# Altium footprint library header_female.PcbLib: 8 footprints
Each footprint in its own frame and in the unit in brackets; x right, y up, seen from the top. Pads: shape width x height; smd on the part's side, far side on the other; paste and mask are expansions set on the pad; w line width, h text height; cw(c..) or ccw(c..) is an arc to the next point about the centre after c.
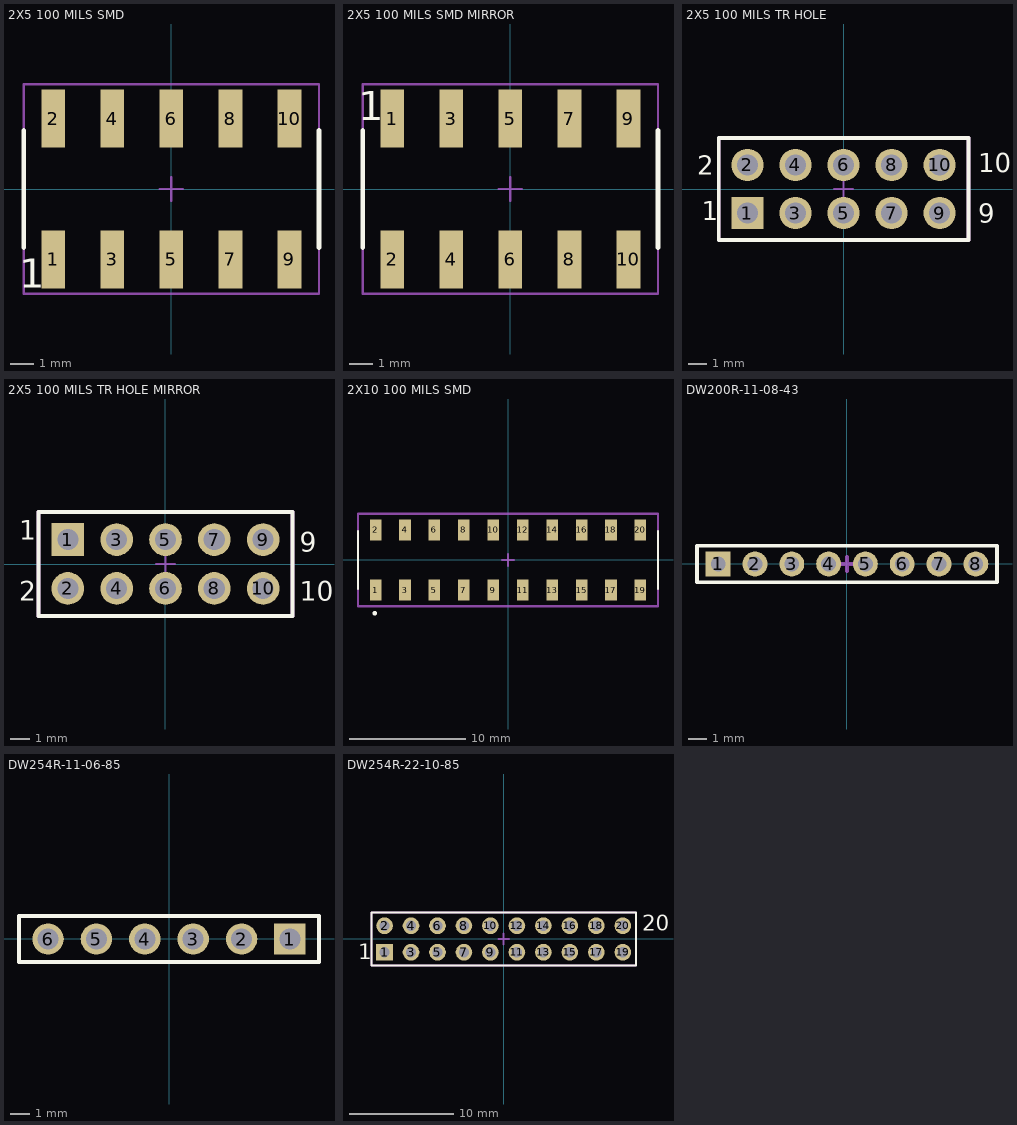
[diagram p0: the footprints below, top view; thin cyan lines are the x and y axes]

## 2X5 100 MILS SMD [mm]
pads (10):
  rect 1.02x2.5 smd: 1(-5.08,-3.025) 2(-5.08,3.025) 3(-2.54,-3.025) 4(-2.54,3.025) 5(0,-3.025) 6(0,3.025) 7(2.54,-3.025) 8(2.54,3.025) 9(5.08,-3.025) 10(5.08,3.025)
Top Overlay:
  lines w0.2: -6.35,-2.515 -6.35,2.515 ; 6.35,-2.515 6.35,2.515
  text "1" at -6.55,-4.25 h1.25
Top Courtyard (Mech15):
  lines w0.1: -0.5,0 0.5,0 ; 0,-0.5 0,0.5 ; -6.35,-4.5 6.35,-4.5 6.35,4.5 -6.35,4.5 -6.35,-4.5
  text "'.Designator'" at 0.95,-0.225 h1
3D body "89898-305_asm.stp": height 7.2, standoff 0, extent -6.39,-3.016 6.23,3.016

## 2X5 100 MILS SMD MIRROR [mm]
pads (10):
  rect 1.02x2.5 smd: 1(-5.08,3.025) 2(-5.08,-3.025) 3(-2.54,3.025) 4(-2.54,-3.025) 5(0,3.025) 6(0,-3.025) 7(2.54,3.025) 8(2.54,-3.025) 9(5.08,3.025) 10(5.08,-3.025)
Top Overlay:
  lines w0.2: -6.35,-2.515 -6.35,2.515 ; 6.35,-2.515 6.35,2.515
  text "1" at -6.55,2.95 h1.25
Top Courtyard (Mech15):
  lines w0.1: -0.5,0 0.5,0 ; 0,-0.5 0,0.5 ; -6.35,-4.5 -6.35,4.5 6.35,4.5 6.35,-4.5 -6.35,-4.5
  text "'.Designator'" at -5.7,-3.7 h1
3D body "89898-305_asm.stp": height 7.2, standoff 0, extent -6.39,-3.016 6.23,3.016

## 2X5 100 MILS TR HOLE [mm]
pads (10):
  rect 1.7x1.7 hole 1.1: 1(-5.08,-1.27)
  round 1.7 hole 1.1: 2(-5.08,1.27) 3(-2.54,-1.27) 4(-2.54,1.27) 5(0,-1.27) 6(0,1.27) 7(2.54,-1.27) 8(2.54,1.27) 9(5.08,-1.27) 10(5.08,1.27)
Top Overlay:
  lines w0.2: -6.6,-2.7 6.6,-2.7 6.6,2.7 -6.6,2.7 -6.6,-2.7
  text "9" at 7.112,-1.778 h1
  text "10" at 7.112,0.889 h1
  text "1" at -7.493,-1.651 h1
  text "2" at -7.747,0.762 h1
Top Courtyard (Mech15):
  lines w0.1: -0.5,0 0.5,0 ; 0,-0.5 0,0.5
  lines w0.2: -6.6,-2.7 -6.6,2.7 6.6,2.7 6.6,-2.7 -6.6,-2.7
  text "'.Designator'" at -5.4,-2 h1
3D body "zl262-10d_p2-54_l13-2_w5_h8-5.stp": height 8.5, standoff -3, extent -6.6,-2.5 6.6,2.5

## 2X5 100 MILS TR HOLE MIRROR [mm]
pads (10):
  rect 1.7x1.7 hole 1.1: 1(-5.08,1.27)
  round 1.7 hole 1.1: 2(-5.08,-1.27) 3(-2.54,1.27) 4(-2.54,-1.27) 5(0,1.27) 6(0,-1.27) 7(2.54,1.27) 8(2.54,-1.27) 9(5.08,1.27) 10(5.08,-1.27)
Top Overlay:
  lines w0.2: -6.6,-2.7 6.6,-2.7 6.6,2.7 -6.6,2.7 -6.6,-2.7
  text "2" at -7.62,-1.905 h1
  text "1" at -7.62,1.27 h1
  text "10" at 6.985,-1.905 h1
  text "9" at 6.985,0.635 h1
Top Courtyard (Mech15):
  lines w0.1: -0.5,0 0.5,0 ; 0,-0.5 0,0.5
  lines w0.2: -6.6,-2.7 -6.6,2.7 6.6,2.7 6.6,-2.7 -6.6,-2.7
  text "'.Designator'" at -5.8,-1.9 h1
3D body "zl262-10d_p2-54_l13-2_w5_h8-5.stp": height 8.5, standoff -3, extent -6.6,-2.5 6.6,2.5

## 2X10 100 MILS SMD [mm]
pads (20):
  rect 1x1.8 smd: 1(-11.43,-2.6) 2(-11.43,2.6) 3(-8.89,-2.6) 4(-8.89,2.6) 5(-6.35,-2.6) 6(-6.35,2.6) 7(-3.81,-2.6) 8(-3.81,2.6) 9(-1.27,-2.6) 10(-1.27,2.6) 11(1.27,-2.6) 12(1.27,2.6) 13(3.81,-2.6) 14(3.81,2.6) 15(6.35,-2.6) 16(6.35,2.6) 17(8.89,-2.6) 18(8.89,2.6) 19(11.43,-2.6) 20(11.43,2.6)
Top Overlay:
  lines w0.2: -12.95,-2.5 -12.95,2.5 ; 12.95,-2.5 12.95,2.5 ; -11.5,-4.7 cw(c-11.5,-4.6) -11.5,-4.5 cw(c-11.5,-4.6) -11.5,-4.7
Top Courtyard (Mech15):
  lines w0.2: -0.5,0 0.5,0 ; 0,-0.5 0,0.5 ; -12.95,-4 -12.95,4 12.95,4 12.95,-4 -12.95,-4
  text "'.Designator'" at -10.7,-2.9 h1.25
3D body "61032021821.stp": height 7.85, standoff 0, extent -12.95,-3.4 12.95,3.4

## DW200R-11-08-43 [mm]
pads (8):
  rect 1.35x1.35 hole 0.8: 1(-7,0)
  round 1.35 hole 0.8: 2(-5,0) 3(-3,0) 4(-1,0) 5(1,0) 6(3,0) 7(5,0) 8(7,0)
Top Overlay:
  lines w0.2: -8.15,-1 8.15,-1 8.15,1 -8.15,1 -8.15,-1
Top Courtyard (Mech15):
  lines w0.1: -8.15,-1 -8.15,1 8.15,1 8.15,-1 -8.15,-1
  lines w0.2: -0.4,0 0,0 ; 0,-0.4 0,0 ; 0,0.4 0,0 ; 0.4,0 0,0
  text "'.Designator'" at -7.1,-0.133 h0.5
3D body "DW200R-11-08-43.stp": height 6.35, standoff -1.27, extent -8.15,-1 8.15,1

## DW254R-11-06-85 [mm]
pads (6):
  rect 1.65x1.65 / inner round 1.65 / far side rect 1.65x1.65 hole 1.1: 1(6.35,-0.005)
  round 1.65 hole 1.1: 2(3.81,-0.005) 3(1.27,-0.005) 4(-1.27,-0.005) 5(-3.81,-0.005) 6(-6.35,-0.005)
Top Overlay:
  lines w0.2: -7.875,-1.21 -7.875,1.2 7.875,1.2 7.875,-1.21 -7.875,-1.21
Top Courtyard (Mech15):
  lines w0.1: -7.875,-1.21 -7.875,1.2 7.875,1.2 7.875,-1.21 -7.875,-1.21
3D body "1x6_Female_TH.stp": height 8.51, standoff -4.93, extent -7.925,-1.205 7.825,1.205

## DW254R-22-10-85 [mm]
pads (20):
  rect 1.6x1.6 / inner round 1.2 / far side rect 1.2x1.2 hole 1: 1(-11.43,-1.27)
  round 1.6 hole 1: 2(-11.43,1.27) 3(-8.89,-1.27) 4(-8.89,1.27) 5(-6.35,-1.27) 6(-6.35,1.27) 7(-3.81,-1.27) 8(-3.81,1.27) 9(-1.27,-1.27) 10(-1.27,1.27) 11(1.27,-1.27) 12(1.27,1.27) 13(3.81,-1.27) 14(3.81,1.27) 15(6.35,-1.27) 16(6.35,1.27) 17(8.89,-1.27) 18(8.89,1.27) 19(11.43,-1.27) 20(11.43,1.27)
Top Overlay:
  lines w0.2: -12.7,-2.54 -12.7,2.54 12.7,2.54 12.7,-2.54 -12.7,-2.54
  text "20" at 13.3,0.8 h1.5
  text "1" at -13.975,-1.95 h1.5
Top Courtyard (Mech15):
  lines w0.2: -0.5,0 0.5,0 ; 0,-0.5 0,0.5 ; -12.7,-2.54 -12.7,2.54 12.7,2.54 12.7,-2.54 -12.7,-2.54
  text "'.Designator'" at 0.9,-1.7 h1
3D body "2x10_Female_Though_hole.stp": height 8.55, standoff -2.85, extent -12.7,-2.54 12.7,2.54